# EAGLE library part LISTA_2X5 (library library)
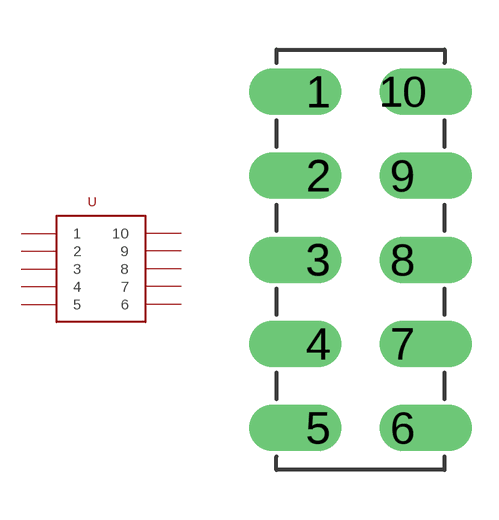
[diagram p4: symbol with the pads of LISTA_2X5; footprint LISTA_2X5]

Designator prefix -

## LISTA_2X5  [LISTA_2X5]
1  1
2  2
3  3
4  4
5  5
6  6
7  7
8  8
9  9
10  10

## Footprint LISTA_2X5 (pad centres in mm)
drill 0.889 pad 1.27 offset: 1 0,0; 2 0,-2.54; 3 0,-5.08; 4 0,-7.62; 5 0,-10.16; 6 2.54,-10.16; 7 2.54,-7.62; 8 2.54,-5.08; 9 2.54,-2.54; 10 2.54,0